# EAGLE library part LM5085 (library multicopter)
LM5085 http://www.ti.com/lit/ds/symlink/lm5085.pdf
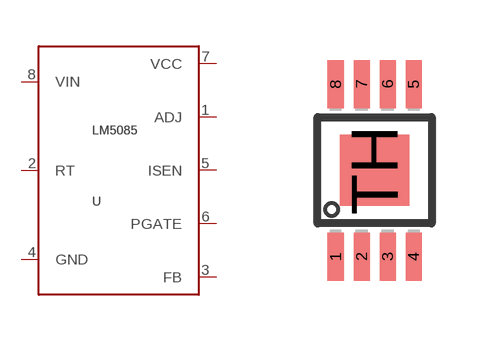
[diagram p2: symbol with the pads of S-PDSO-G08; footprint S-PDSO-G08]

Designator prefix -

## LM5085  [S-PDSO-G08]
1  ADJ
2  RT
3  FB
4  GND  pwr
5  ISEN
6  PGATE
7  VCC  pwr
8  VIN  in

## Footprint S-PDSO-G08 (pad centres in mm)
DGN (S-PDSO-G8) PowerPAD (TM) Plastic Small-Outline Package Source: http://focus.ti.com/lit/ds/symlink/ths4211.pdf
smd 0.4 x 1.2: 1 -0.975,-2.157; 2 -0.325,-2.157; 3 0.325,-2.157; 4 0.975,-2.157; 5 0.975,2.157; 6 0.325,2.157; 7 -0.325,2.157; 8 -0.975,2.157
smd 1.73 x 1.78: TH 0,0